# Altium footprint library APDS-9007.PcbLib: 1 footprints
Each footprint in its own frame and in the unit in brackets; x right, y up, seen from the top. Pads: shape width x height; smd on the part's side, far side on the other; paste and mask are expansions set on the pad; w line width, h text height; cw(c..) or ccw(c..) is an arc to the next point about the centre after c.
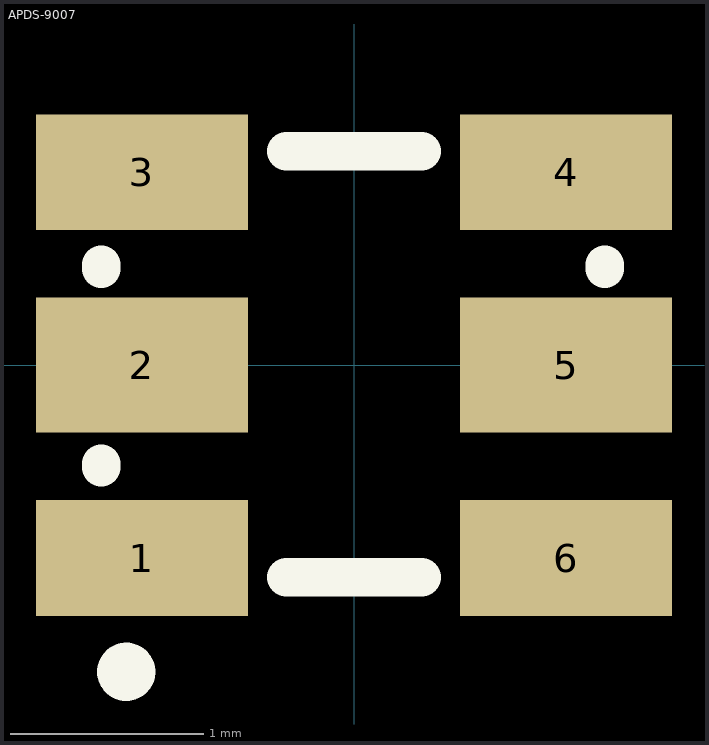
[diagram p0: the footprint, top view; thin cyan lines are the x and y axes]

## APDS-9007 [mm]
pads (6):
  rect 1.1x0.6 smd: 1(-1.1,-1) 3(-1.1,1) 4(1.1,1) 6(1.1,-1)
  rect 1.1x0.7 smd: 2(-1.1,0) 5(1.1,0)
Top Overlay:
  circle w0.2: c-1.181,-1.59 r0.051
  lines w0.2: -1.31,-0.53 -1.31,-0.51 ; -1.31,0.5 -1.31,0.52 ; -0.35,-1.1 0.35,-1.1 ; -0.35,1.11 0.35,1.11 ; 1.3,0.5 1.3,0.52
3D body: height 0.55, standoff 0.18, extent -0.75,-1.1 0.75,1.1
3D body: height 0.18, standoff 0, extent -1.3,-1.1 1.3,1.1